# Altium footprint library ZH1.5.PcbLib: 63 footprints (part 3 of 4)
Each footprint in its own frame and in the unit in brackets; x right, y up, seen from the top. Pads: shape width x height; smd on the part's side, far side on the other; paste and mask are expansions set on the pad; w line width, h text height; cw(c..) or ccw(c..) is an arc to the next point about the centre after c.
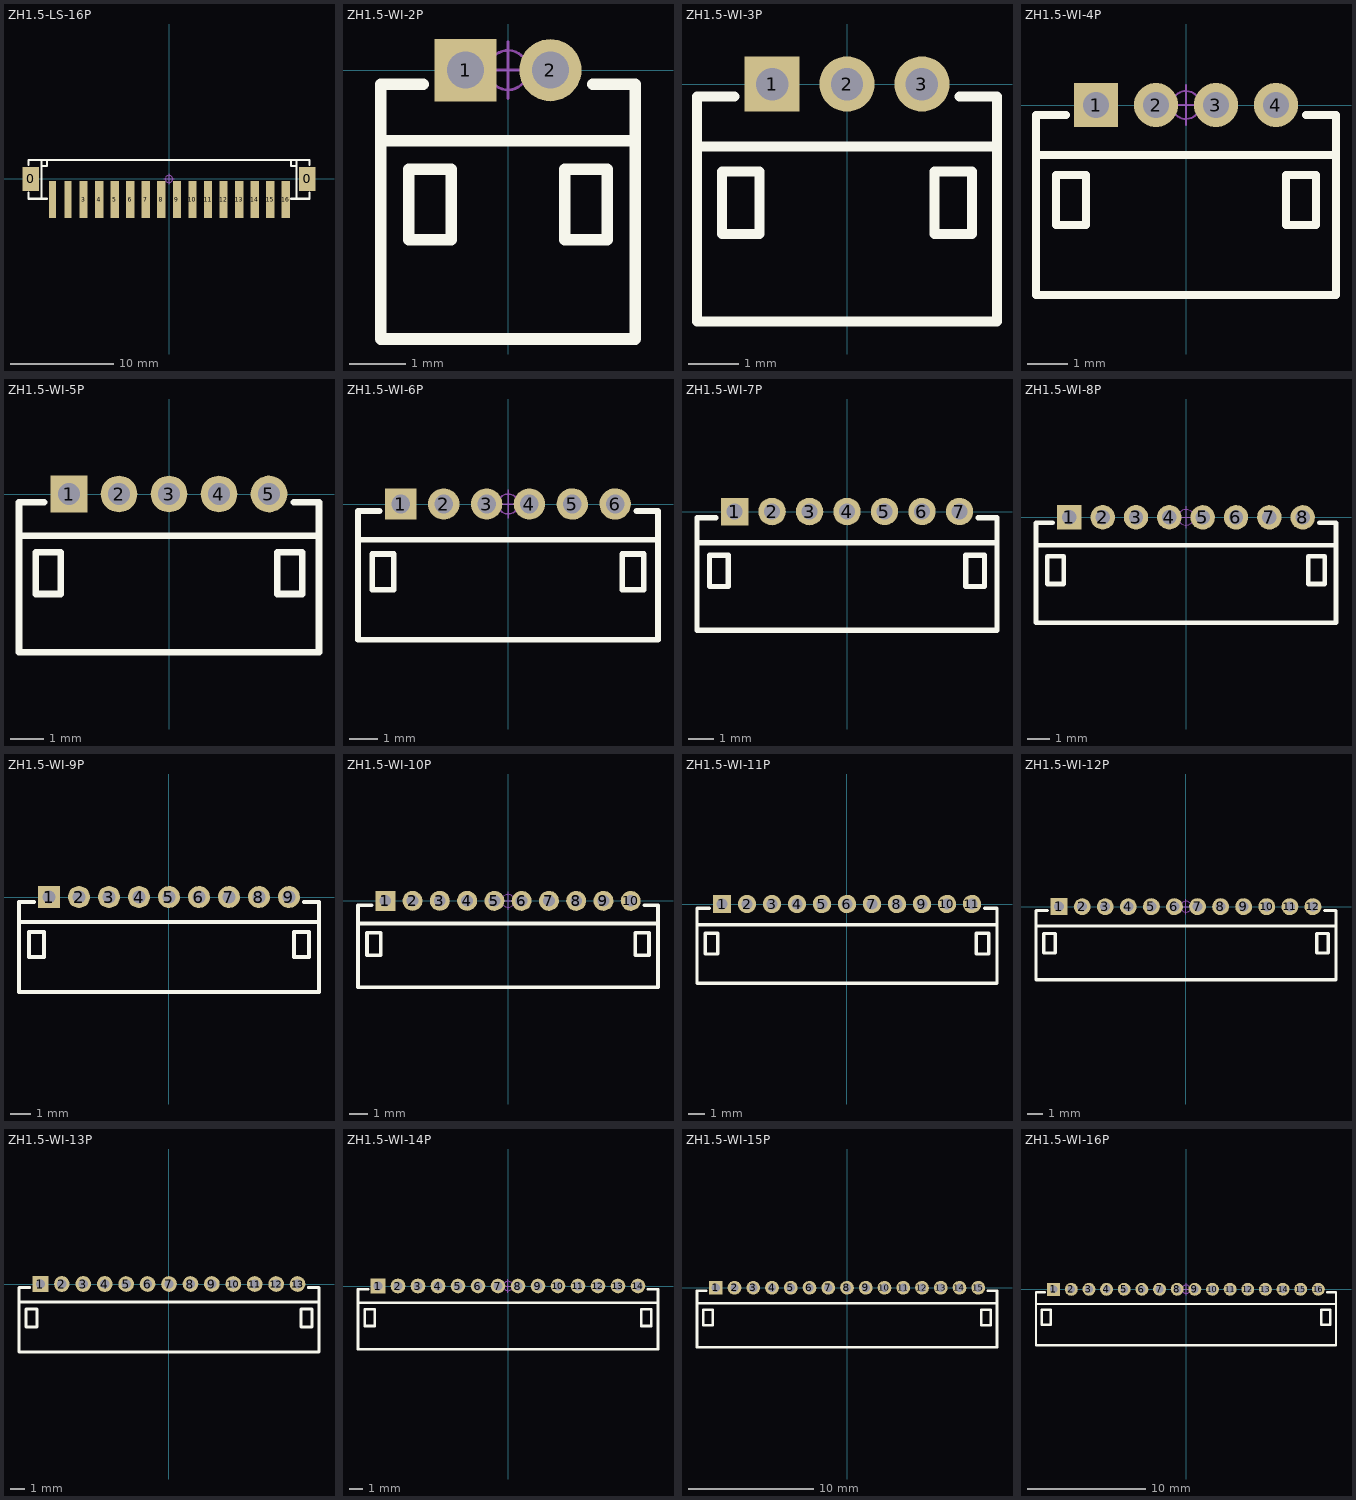
[diagram p2: the footprints below, top view; thin cyan lines are the x and y axes]

## ZH1.5-LS-16P [mm] "长：27.5mm，宽：3.7mm，高：5.0mm"
pads (18):
  rect 1.6x2.3 smd: 0(-13.318,0) 0(13.318,0)
  rect 0.7x3.6 smd: 1(-11.238,-1.981) 2(-9.738,-1.981)
  rect 0.8x3.6 smd: 3(-8.238,-1.981) 4(-6.738,-1.981) 5(-5.238,-1.981) 6(-3.738,-1.981) 7(-2.238,-1.981) 8(-0.738,-1.981) 9(0.762,-1.981) 10(2.262,-1.981) 11(3.762,-1.981) 12(5.262,-1.981) 13(6.762,-1.981) 14(8.262,-1.981) 15(9.762,-1.981) 16(11.262,-1.981)
Top Overlay:
  lines w0.203: -13.55,-1.318 -13.55,-1.905 -11.772,-1.905 ; -13.55,1.349 -13.55,1.85 13.55,1.85 13.55,1.349 ; -12.28,-1.905 -12.28,1.85 ; -12.28,1.27 -11.772,1.27 -11.772,1.85 ; 11.772,-1.905 13.55,-1.905 13.55,-1.318 ; 11.772,1.85 11.772,1.27 12.28,1.27 ; 12.28,-1.905 12.28,1.85
Mechanical 15:
  circle w0.05: c0,0 r0.35
  lines w0.05: -0.5,0 0.5,0 ; 0,-0.5 0,0.5
3D body "ZH1.5-LS-16P.STEP": height 5.05, standoff 0, extent -13.55,-3.35 13.55,1.85

## ZH1.5-WI-2P [mm] "长：4.5，宽：4.5，高：3.6"
pads (2):
  rect 1.1x1.1 hole 0.65: 1(-0.75,0)
  round 1.1 hole 0.65: 2(0.75,0)
Top Overlay:
  lines w0.203: -2.25,-1.25 2.25,-1.25 ; -1.5,-0.25 -2.25,-0.25 -2.25,-4.75 ; 1.5,-0.25 2.25,-0.25 2.25,-4.75 -2.25,-4.75 ; -2.25,-4.75 -2.25,-4.75 ; -1.75,-3 -1.75,-1.75 -1,-1.75 -1,-3 -1.75,-3 ; 1,-3 1,-1.75 1.75,-1.75 1.75,-3 1,-3
Mechanical 15:
  circle w0.05: c0,0 r0.35
  lines w0.05: -0.5,0 0.5,0 ; 0,-0.5 0,0.5
3D body "ZH1.5-WI-2P.STEP": height 3.65, standoff -2.35, extent -2.25,-4.75 2.25,0.25

## ZH1.5-WI-3P [mm] "长：6.0，宽：4.5，高：3.6"
pads (3):
  rect 1.1x1.1 hole 0.65: 1(-1.5,0)
  round 1.1 hole 0.65: 2(0,0) 3(1.5,0)
Top Overlay:
  lines w0.203: -3,-1.25 3,-1.25 ; -2.25,-0.25 -3,-0.25 -3,-4.75 ; 2.25,-0.25 3,-0.25 3,-4.75 -3,-4.75 ; -3,-4.75 -3,-4.75 ; -2.5,-3 -2.5,-1.75 -1.75,-1.75 -1.75,-3 -2.5,-3 ; 1.75,-3 1.75,-1.75 2.5,-1.75 2.5,-3 1.75,-3
Mechanical 15:
  circle w0.05: c0,0 r0.35
  lines w0.05: -0.5,0 0.5,0 ; 0,-0.5 0,0.5
3D body "ZH1.5-WI-3P.STEP": height 3.65, standoff -2.35, extent -3,-4.75 3,0.25

## ZH1.5-WI-4P [mm] "长：7.5，宽：4.5，高：3.6"
pads (4):
  rect 1.1x1.1 hole 0.65: 1(-2.25,0)
  round 1.1 hole 0.65: 2(-0.75,0) 3(0.75,0) 4(2.25,0)
Top Overlay:
  lines w0.203: -3.75,-1.25 3.75,-1.25 ; -3,-0.25 -3.75,-0.25 -3.75,-4.75 ; 3,-0.25 3.75,-0.25 3.75,-4.75 -3.75,-4.75 ; -3.75,-4.75 -3.75,-4.75 ; -3.25,-3 -2.5,-3 -2.5,-1.75 -3.25,-1.75 -3.25,-3 ; 2.5,-3 3.25,-3 3.25,-1.75 2.5,-1.75 2.5,-3
Mechanical 15:
  circle w0.05: c0,0 r0.35
  lines w0.05: -0.5,0 0.5,0 ; 0,-0.5 0,0.5
3D body "ZH1.5-WI-4P.STEP": height 3.65, standoff -2.35, extent -3.75,-4.75 3.75,0.25

## ZH1.5-WI-5P [mm] "长：9.0，宽：4.5，高：3.6"
pads (5):
  rect 1.1x1.1 hole 0.65: 1(-3,0)
  round 1.1 hole 0.65: 2(-1.5,0) 3(0,0) 4(1.5,0) 5(3,0)
Top Overlay:
  lines w0.203: -4.5,-1.25 4.5,-1.25 ; -3.75,-0.25 -4.5,-0.25 -4.5,-4.75 ; 3.75,-0.25 4.5,-0.25 4.5,-4.75 -4.5,-4.75 ; -4.5,-4.75 -4.5,-4.75 ; -4,-3 -3.25,-3 -3.25,-1.75 -4,-1.75 -4,-3 ; 3.25,-3 4,-3 4,-1.75 3.25,-1.75 3.25,-3
Mechanical 15:
  circle w0.05: c0,0 r0.35
  lines w0.05: -0.5,0 0.5,0 ; 0,-0.5 0,0.5
3D body "ZH1.5-WI-5P.STEP": height 3.65, standoff -2.35, extent -4.5,-4.75 4.5,0.25

## ZH1.5-WI-6P [mm] "长：10.5，宽：4.5，高：3.6"
pads (6):
  rect 1.1x1.1 hole 0.65: 1(-3.75,0)
  round 1.1 hole 0.65: 2(-2.25,0) 3(-0.75,0) 4(0.75,0) 5(2.25,0) 6(3.75,0)
Top Overlay:
  lines w0.203: -5.25,-1.25 5.25,-1.25 ; -4.5,-0.25 -5.25,-0.25 -5.25,-4.75 ; 4.5,-0.25 5.25,-0.25 5.25,-4.75 -5.25,-4.75 ; -5.25,-4.75 -5.25,-4.75 ; -4.75,-3 -4,-3 -4,-1.75 -4.75,-1.75 -4.75,-3 ; 4,-3 4.75,-3 4.75,-1.75 4,-1.75 4,-3
Mechanical 15:
  circle w0.05: c0,0 r0.35
  lines w0.05: -0.5,0 0.5,0 ; 0,-0.5 0,0.5
3D body "ZH1.5-WI-6P.STEP": height 3.65, standoff -2.35, extent -5.25,-4.75 5.25,0.25

## ZH1.5-WI-7P [mm] "长：12.0，宽：4.5，高：3.6"
pads (7):
  rect 1.1x1.1 hole 0.65: 1(-4.5,0)
  round 1.1 hole 0.65: 2(-3,0) 3(-1.5,0) 4(0,0) 5(1.5,0) 6(3,0) 7(4.5,0)
Top Overlay:
  lines w0.203: -6,-1.25 6,-1.25 ; -5.25,-0.25 -6,-0.25 -6,-4.75 ; 5.25,-0.25 6,-0.25 6,-4.75 -6,-4.75 ; -6,-4.75 -6,-4.75 ; -5.5,-3 -5.5,-1.75 -4.75,-1.75 -4.75,-3 -5.5,-3 ; 4.75,-3 4.75,-1.75 5.5,-1.75 5.5,-3 4.75,-3
Mechanical 15:
  circle w0.05: c0,0 r0.35
  lines w0.05: -0.5,0 0.5,0 ; 0,-0.5 0,0.5
3D body "ZH1.5-WI-7P.STEP": height 3.65, standoff -2.35, extent -6,-4.75 6,0.25

## ZH1.5-WI-8P [mm] "长：13.5，宽：4.5，高：3.6"
pads (8):
  rect 1.1x1.1 hole 0.65: 1(-5.25,0)
  round 1.1 hole 0.65: 2(-3.75,0) 3(-2.25,0) 4(-0.75,0) 5(0.75,0) 6(2.25,0) 7(3.75,0) 8(5.25,0)
Top Overlay:
  lines w0.203: -6.75,-1.25 6.75,-1.25 ; -6,-0.25 -6.75,-0.25 -6.75,-4.75 ; 6,-0.25 6.75,-0.25 6.75,-4.75 -6.75,-4.75 ; -6.75,-4.75 -6.75,-4.75 ; -6.25,-3 -5.5,-3 -5.5,-1.75 -6.25,-1.75 -6.25,-3 ; 5.5,-3 6.25,-3 6.25,-1.75 5.5,-1.75 5.5,-3
Mechanical 15:
  circle w0.05: c0,0 r0.35
  lines w0.05: -0.5,0 0.5,0 ; 0,-0.5 0,0.5
3D body "ZH1.5-WI-8P.STEP": height 3.65, standoff -2.35, extent -6.75,-4.75 6.75,0.25

## ZH1.5-WI-9P [mm] "长：15.0，宽：4.5，高：3.6"
pads (9):
  rect 1.1x1.1 hole 0.65: 1(-6,0)
  round 1.1 hole 0.65: 2(-4.5,0) 3(-3,0) 4(-1.5,0) 5(0,0) 6(1.5,0) 7(3,0) 8(4.5,0) 9(6,0)
Top Overlay:
  lines w0.203: -7.5,-1.25 7.5,-1.25 ; -6.75,-0.25 -7.5,-0.25 -7.5,-4.75 ; 6.75,-0.25 7.5,-0.25 7.5,-4.75 -7.5,-4.75 ; -7.5,-4.75 -7.5,-4.75 ; -7,-3 -7,-1.75 -6.25,-1.75 -6.25,-3 -7,-3 ; 6.25,-3 6.25,-1.75 7,-1.75 7,-3 6.25,-3
Mechanical 15:
  circle w0.05: c0,0 r0.35
  lines w0.05: -0.5,0 0.5,0 ; 0,-0.5 0,0.5
3D body "ZH1.5-WI-9P.STEP": height 3.65, standoff -2.35, extent -7.5,-4.75 7.5,0.25

## ZH1.5-WI-10P [mm] "长：16.5，宽：4.5，高：3.6"
pads (10):
  rect 1.1x1.1 hole 0.65: 1(-6.75,0)
  round 1.1 hole 0.65: 2(-5.25,0) 3(-3.75,0) 4(-2.25,0) 5(-0.75,0) 6(0.75,0) 7(2.25,0) 8(3.75,0) 9(5.25,0) 10(6.75,0)
Top Overlay:
  lines w0.203: -8.25,-1.25 8.25,-1.25 ; -7.5,-0.25 -8.25,-0.25 -8.25,-4.75 ; 7.5,-0.25 8.25,-0.25 8.25,-4.75 -8.25,-4.75 ; -8.25,-4.75 -8.25,-4.75 ; -7.75,-3 -7.75,-1.75 -7,-1.75 -7,-3 -7.75,-3 ; 7,-3 7,-1.75 7.75,-1.75 7.75,-3 7,-3
Mechanical 15:
  circle w0.05: c0,0 r0.35
  lines w0.05: -0.5,0 0.5,0 ; 0,-0.5 0,0.5
3D body "ZH1.5-WI-10P.STEP": height 3.65, standoff -2.35, extent -8.25,-4.75 8.25,0.25

## ZH1.5-WI-11P [mm] "长：18.0，宽：4.5，高：3.6"
pads (11):
  rect 1.1x1.1 hole 0.65: 1(-7.5,0)
  round 1.1 hole 0.65: 2(-6,0) 3(-4.5,0) 4(-3,0) 5(-1.5,0) 6(0,0) 7(1.5,0) 8(3,0) 9(4.5,0) 10(6,0) 11(7.5,0)
Top Overlay:
  lines w0.203: -9,-1.25 9,-1.25 ; -8.25,-0.25 -9,-0.25 -9,-4.75 ; 8.25,-0.25 9,-0.25 9,-4.75 -9,-4.75 ; -9,-4.75 -9,-4.75 ; -8.5,-3 -8.5,-1.75 -7.75,-1.75 -7.75,-3 -8.5,-3 ; 7.75,-3 7.75,-1.75 8.5,-1.75 8.5,-3 7.75,-3
Mechanical 15:
  circle w0.05: c0,0 r0.35
  lines w0.05: -0.5,0 0.5,0 ; 0,-0.5 0,0.5
3D body "ZH1.5-WI-11P.STEP": height 3.65, standoff -2.35, extent -9,-4.75 9,0.25

## ZH1.5-WI-12P [mm] "长：19.5，宽：4.5，高：3.6"
pads (12):
  rect 1.1x1.1 hole 0.65: 1(-8.25,0)
  round 1.1 hole 0.65: 2(-6.75,0) 3(-5.25,0) 4(-3.75,0) 5(-2.25,0) 6(-0.75,0) 7(0.75,0) 8(2.25,0) 9(3.75,0) 10(5.25,0) 11(6.75,0) 12(8.25,0)
Top Overlay:
  lines w0.203: -9.75,-1.25 9.75,-1.25 ; -9,-0.25 -9.75,-0.25 -9.75,-4.75 ; 9,-0.25 9.75,-0.25 9.75,-4.75 -9.75,-4.75 ; -9.75,-4.75 -9.75,-4.75 ; -9.25,-3 -9.25,-1.75 -8.5,-1.75 -8.5,-3 -9.25,-3 ; 8.5,-3 8.5,-1.75 9.25,-1.75 9.25,-3 8.5,-3
Mechanical 15:
  circle w0.05: c0,0 r0.35
  lines w0.05: -0.5,0 0.5,0 ; 0,-0.5 0,0.5
3D body "ZH1.5-WI-12P.STEP": height 3.65, standoff -2.35, extent -9.75,-4.75 9.75,0.25

## ZH1.5-WI-13P [mm] "长：21.0，宽：4.5，高：3.6"
pads (13):
  rect 1.1x1.1 hole 0.65: 1(-9,0)
  round 1.1 hole 0.65: 2(-7.5,0) 3(-6,0) 4(-4.5,0) 5(-3,0) 6(-1.5,0) 7(0,0) 8(1.5,0) 9(3,0) 10(4.5,0) 11(6,0) 12(7.5,0) 13(9,0)
Top Overlay:
  lines w0.203: -10.5,-1.25 10.5,-1.25 ; -9.75,-0.25 -10.5,-0.25 -10.5,-4.75 ; 9.75,-0.25 10.5,-0.25 10.5,-4.75 -10.5,-4.75 ; -10.5,-4.75 -10.5,-4.75 ; -10,-3 -10,-1.75 -9.25,-1.75 -9.25,-3 -10,-3 ; 9.25,-3 9.25,-1.75 10,-1.75 10,-3 9.25,-3
Mechanical 15:
  circle w0.05: c0,0 r0.35
  lines w0.05: -0.5,0 0.5,0 ; 0,-0.5 0,0.5
3D body "ZH1.5-WI-13P.STEP": height 3.65, standoff -2.35, extent -10.5,-4.75 10.5,0.25

## ZH1.5-WI-14P [mm] "长：22.5，宽：4.5，高：3.6"
pads (14):
  rect 1.1x1.1 hole 0.65: 1(-9.75,0)
  round 1.1 hole 0.65: 2(-8.25,0) 3(-6.75,0) 4(-5.25,0) 5(-3.75,0) 6(-2.25,0) 7(-0.75,0) 8(0.75,0) 9(2.25,0) 10(3.75,0) 11(5.25,0) 12(6.75,0) 13(8.25,0) 14(9.75,0)
Top Overlay:
  lines w0.203: -11.25,-1.25 11.25,-1.25 ; -10.5,-0.25 -11.25,-0.25 -11.25,-4.75 ; 10.5,-0.25 11.25,-0.25 11.25,-4.75 -11.25,-4.75 ; -11.25,-4.75 -11.25,-4.75 ; -10.75,-3 -10,-3 -10,-1.75 -10.75,-1.75 -10.75,-3 ; 10,-3 10.75,-3 10.75,-1.75 10,-1.75 10,-3
Mechanical 15:
  circle w0.05: c0,0 r0.35
  lines w0.05: -0.5,0 0.5,0 ; 0,-0.5 0,0.5
3D body "ZH1.5-WI-14P.STEP": height 3.65, standoff -2.35, extent -11.25,-4.75 11.25,0.25

## ZH1.5-WI-15P [mm] "长：24.0，宽：4.5，高：3.6"
pads (15):
  rect 1.1x1.1 hole 0.65: 1(-10.5,0)
  round 1.1 hole 0.65: 2(-9,0) 3(-7.5,0) 4(-6,0) 5(-4.5,0) 6(-3,0) 7(-1.5,0) 8(0,0) 9(1.5,0) 10(3,0) 11(4.5,0) 12(6,0) 13(7.5,0) 14(9,0) 15(10.5,0)
Top Overlay:
  lines w0.203: -12,-1.25 12,-1.25 ; -11.25,-0.25 -12,-0.25 -12,-4.75 ; 11.25,-0.25 12,-0.25 12,-4.75 -12,-4.75 ; -12,-4.75 -12,-4.75 ; -11.5,-3 -11.5,-1.75 -10.75,-1.75 -10.75,-3 -11.5,-3 ; 10.75,-3 10.75,-1.75 11.5,-1.75 11.5,-3 10.75,-3
Mechanical 15:
  circle w0.05: c0,0 r0.35
  lines w0.05: -0.5,0 0.5,0 ; 0,-0.5 0,0.5
3D body "ZH1.5-WI-15P.STEP": height 3.65, standoff -2.35, extent -12,-4.75 12,0.25

## ZH1.5-WI-16P [mm] "长：25.5，宽：4.5，高：3.6"
pads (16):
  rect 1.1x1.1 hole 0.65: 1(-11.25,0)
  round 1.1 hole 0.65: 2(-9.75,0) 3(-8.25,0) 4(-6.75,0) 5(-5.25,0) 6(-3.75,0) 7(-2.25,0) 8(-0.75,0) 9(0.75,0) 10(2.25,0) 11(3.75,0) 12(5.25,0) 13(6.75,0) 14(8.25,0) 15(9.75,0) 16(11.25,0)
Top Overlay:
  lines w0.203: -12.75,-1.25 12.75,-1.25 ; -12,-0.25 -12.75,-0.25 -12.75,-4.75 ; 12,-0.25 12.75,-0.25 12.75,-4.75 -12.75,-4.75 ; -12.75,-4.75 -12.75,-4.75 ; -12.25,-3 -12.25,-1.75 -11.5,-1.75 -11.5,-3 -12.25,-3 ; 11.5,-3 11.5,-1.75 12.25,-1.75 12.25,-3 11.5,-3
Mechanical 15:
  circle w0.05: c0,0 r0.35
  lines w0.05: -0.5,0 0.5,0 ; 0,-0.5 0,0.5
3D body "ZH1.5-WI-16P.STEP": height 3.65, standoff -2.35, extent -12.75,-4.75 12.75,0.25